# EAGLE library part ADT7462ACPZ-5RL7 (library ON Semiconductor_By_element14_Batch_1)
Flexible Temperature Voltage Monitor, and System Fan Controller
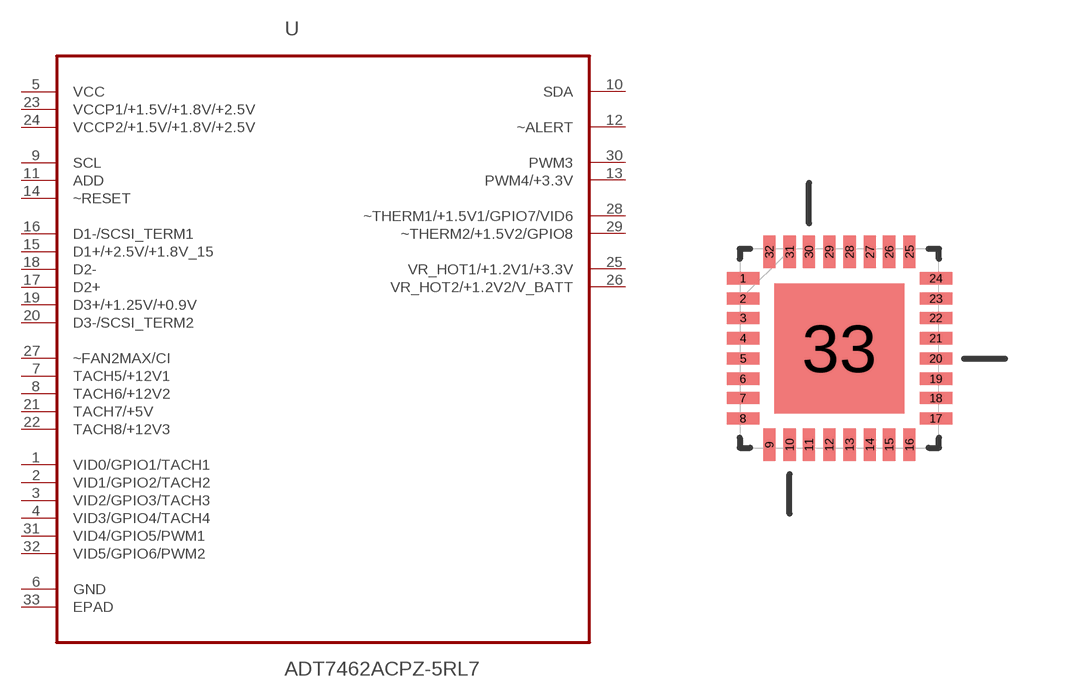
[diagram p6: symbol with the pads of QFN50P500X500X100-32N; footprint QFN50P500X500X100-32N]

Designator prefix U

## ADT7462ACPZ-5RL7 (MPN: ADT7462ACPZ-5RL7; OC_FARNELL: 1736459; OC_NEWARK: 05R5110; P1I: o; PACKAGE: QFN-32; SUPPLIER: ON SEMICONDUCTOR)  [QFN50P500X500X100-32N]
1  VID0/GPIO1/TACH1  in
2  VID1/GPIO2/TACH2  in
3  VID2/GPIO3/TACH3  in
4  VID3/GPIO4/TACH4  in
5  VCC  pwr
6  GND  pas
7  TACH5/+12V1  in
8  TACH6/+12V2  in
9  SCL  in
10  SDA
11  ADD  in
12  ~ALERT  out
13  PWM4/+3.3V  out
14  ~RESET  in
15  D1+/+2.5V/+1.8V_15  in
16  D1-/SCSI_TERM1  in
17  D2+  in
18  D2-  in
19  D3+/+1.25V/+0.9V  in
20  D3-/SCSI_TERM2  in
21  TACH7/+5V  in
22  TACH8/+12V3  in
23  VCCP1/+1.5V/+1.8V/+2.5V  pwr
24  VCCP2/+1.5V/+1.8V/+2.5V  pwr
25  VR_HOT1/+1.2V1/+3.3V  out
26  VR_HOT2/+1.2V2/V_BATT  out
27  ~FAN2MAX/CI  pwr
28  ~THERM1/+1.5V1/GPIO7/VID6  out
29  ~THERM2/+1.5V2/GPIO8  out
30  PWM3  out
31  VID4/GPIO5/PWM1  in
32  VID5/GPIO6/PWM2  in
33  EPAD  pas

## Footprint QFN50P500X500X100-32N (pad centres in mm)
smd 0.813 x 0.305: 1 -2.413,1.753; 2 -2.413,1.245; 3 -2.413,0.762; 4 -2.413,0.254; 5 -2.413,-0.254; 6 -2.413,-0.762; 7 -2.413,-1.245; 8 -2.413,-1.753; 17 2.413,-1.753; 18 2.413,-1.245; 19 2.413,-0.762; 20 2.413,-0.254; 21 2.413,0.254; 22 2.413,0.762; 23 2.413,1.245; 24 2.413,1.753
smd 0.305 x 0.813: 9 -1.753,-2.413; 10 -1.245,-2.413; 11 -0.762,-2.413; 12 -0.254,-2.413; 13 0.254,-2.413; 14 0.762,-2.413; 15 1.245,-2.413; 16 1.753,-2.413; 25 1.753,2.413; 26 1.245,2.413; 27 0.762,2.413; 28 0.254,2.413; 29 -0.254,2.413; 30 -0.762,2.413; 31 -1.245,2.413; 32 -1.753,2.413
smd 3.251 x 3.251: 33 0,0